# Altium schematic symbol library 78M05.SchLib: 1 symbol
Pins are listed as number, name and electrical type; pins without a type are passive.

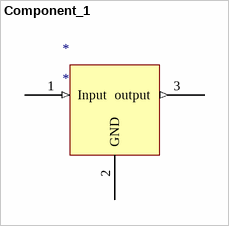
[diagram p0: symbol Component_1]

## Component_1
designator *
78M05
footprint Model Name (Footprint not found)
pins: 1 Input (in), 2 GND, 3 output (out)